# Altium footprint library NEOHM 1W ROX1S.PcbLib: 1 footprints
Each footprint in its own frame and in the unit in brackets; x right, y up, seen from the top. Pads: shape width x height; smd on the part's side, far side on the other; paste and mask are expansions set on the pad; w line width, h text height; cw(c..) or ccw(c..) is an arc to the next point about the centre after c.
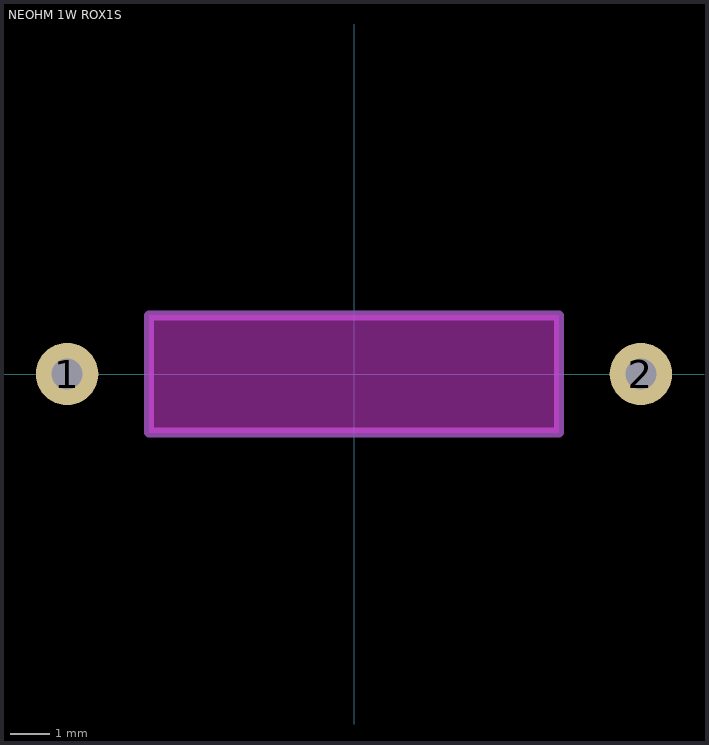
[diagram p0: the footprint, top view; thin cyan lines are the x and y axes]

## NEOHM 1W ROX1S [mm] "THT, resistor"
pads (2):
  round 1.6 hole 0.8: 1(-7.35,0) 2(7.35,0)
Top Overlay:
  text ".Designator" at -4.996,2.512 h1.52
Keep-Out Layer:
  board cut-out: -5.25,1.5 5.25,1.5 5.25,-1.5 -5.25,-1.5
Top Assembly:
  text ".Comment" at -3,-0.5 h1.2
Board:
  lines w0.254: -5.25,-1.5 5.25,-1.5 5.25,1.5 -5.25,1.5 -5.25,-1.5
3D body: height 1.08, standoff -1.08, extent -5,-1.08 5,1.08